# EAGLE library part 6X.1 (library FSAE Electric (Alexander Ray's conflicted copy 2016-04-02))
6x1 .1 header
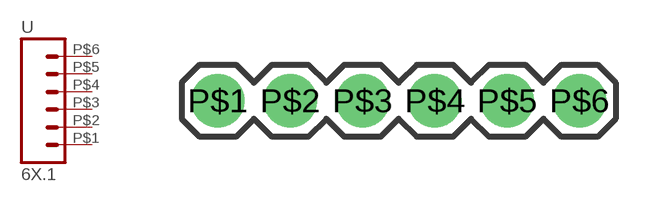
[diagram p83: symbol with the pads of 1X06; footprint 1X06]

Designator prefix -

## 6X.1 (PARTNO: 952-2270-ND)  [1X06]
P$1  1  pas
P$2  2  pas
P$3  3  pas
P$4  4  pas
P$5  5  pas
P$6  6  pas

## Footprint 1X06 (pad centres in mm)
drill 1.016 pad 1.88: P$1 0,0; P$2 2.54,0; P$3 5.08,0; P$4 7.62,0; P$5 10.16,0; P$6 12.7,0